# Altium schematic symbol library Drivers.SchLib: 1 symbol
Pins are listed as number, name and electrical type; pins without a type are passive.

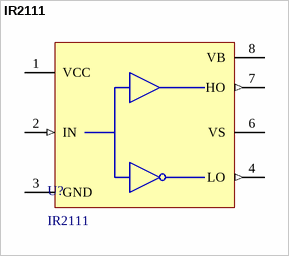
[diagram p0: symbol IR2111]

## IR2111
designator U?
IR2111 - HALF-BRIDGE DRIVER
footprint PDIP8
pins: 1 VCC (power), 2 IN (in), 3 GND (power), 4 LO (out), 6 VS (power), 7 HO (out), 8 VB (power)